# EAGLE library part SPARKCORE (library tjw)
Spark Core
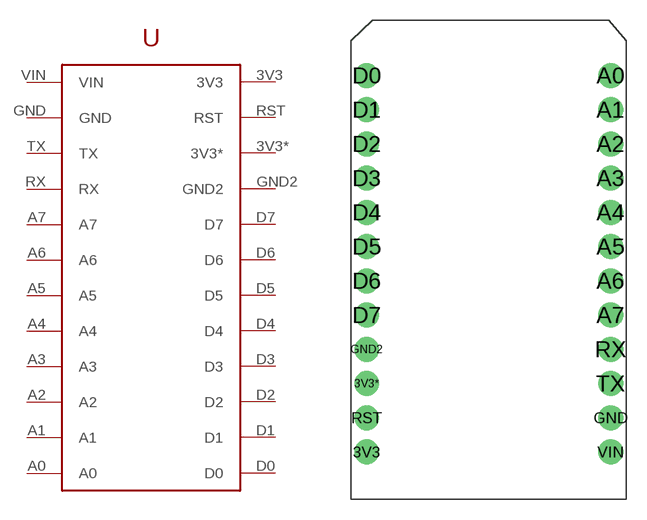
[diagram p1: symbol with the pads of SPARKCORE; footprint SPARKCORE]

Designator prefix -

## SPARKCORE  [SPARKCORE]
3V3  3V3
3V3*  3V3*
A0  A0
A1  A1
A2  A2
A3  A3
A4  A4
A5  A5
A6  A6
A7  A7
D0  D0
D1  D1
D2  D2
D3  D3
D4  D4
D5  D5
D6  D6
D7  D7
GND  GND  pwr
GND2  GND2
RST  RST
RX  RX
TX  TX
VIN  VIN  pwr

## Footprint SPARKCORE (pad centres in mm)
drill 0.8 pad 1.85: 3V3 1.165,3.5; 3V3* 1.165,8.573; A0 19.235,31.399; A1 19.235,28.863; A2 19.235,26.327; A3 19.235,23.79; A4 19.235,21.254; A5 19.235,18.718; A6 19.235,16.182; A7 19.235,13.645; D0 1.165,31.399; D1 1.165,28.863; D2 1.165,26.327; D3 1.165,23.79; D4 1.165,21.254; D5 1.165,18.718; D6 1.165,16.181; D7 1.165,13.645; GND 19.235,6.036; GND2 1.165,11.109; RST 1.165,6.036; RX 19.235,11.109; TX 19.235,8.572; VIN 19.235,3.5